# Altium schematic symbol library Schlib1.SchLib: 4 symbols
Pins are listed as number, name and electrical type; pins without a type are passive.

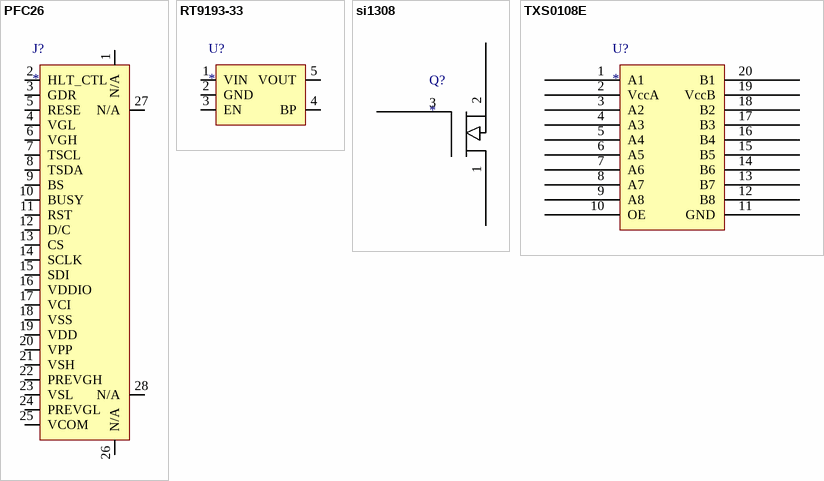
[diagram p0: symbols PFC26 to TXS0108E]

## PFC26
designator J?
footprint PCBComponent_1
footprint PFC26
pins: 1 N/A, 2 HLT_CTL, 3 GDR, 4 VGL, 5 RESE, 6 VGH, 7 TSCL, 8 TSDA, 9 BS, 10 BUSY, 11 RST, 12 D/C, 13 CS, 14 SCLK, 15 SDI, 16 VDDIO, 17 VCI, 18 VSS, 19 VDD, 20 VPP, 21 VSH, 22 PREVGH, 23 VSL, 24 PREVGL, 25 VCOM, 26 N/A, 27 N/A, 28 N/A

## RT9193-33
designator U?
footprint RT9193-33
pins: 1 VIN, 2 GND, 3 EN, 4 BP, 5 VOUT

## si1308
designator Q?
footprint si1308
pins: 1, 2 23, 3 21

## TXS0108E
designator U?
footprint TXS0108E
pins: 1 A1, 2 VccA, 3 A2, 4 A3, 5 A4, 6 A5, 7 A6, 8 A7, 9 A8, 10 OE, 11 GND, 12 B8, 13 B7, 14 B6, 15 B5, 16 B4, 17 B3, 18 B2, 19 VccB, 20 B1